# Altium integrated library 100pF.IntLib: 1 symbol
Pins are listed as number, name and electrical type; pins without a type are passive.

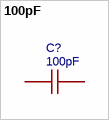
[diagram p0: symbol 100pF]

## 100pF
designator C?
BOM_Manufacturer: YAGEO; BOM_Manufacturer Part: CC0603JRNPO9BN101; nameAlias: Capacitance; BOM_Supplier: LCSC; BOM_Supplier Part: C14665; BOM_JLCPCB Part Class: Extended Part; spicePre: C; spiceSymbolName: CC0603JRNPO9BN101
footprint C0603
pins: 1, 2